# EAGLE library part CIRCUITBRAINS_BASIC (library Dal_V2)
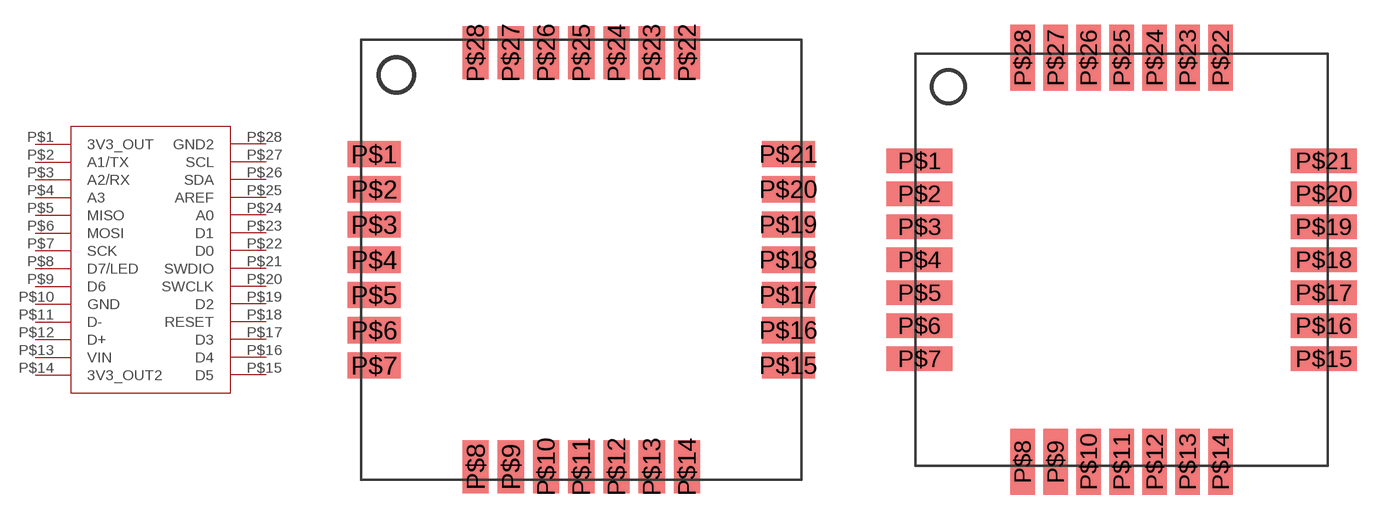
[diagram p16: symbol with the pads of BASIC_28SOM_25MMX25MM; footprints BASIC_28SOM_25MMX25MM, BASIC_28SOM_25MMX25MM_HANDSOLDER]

Designator prefix -

## CIRCUITBRAINS_BASIC  [BASIC_28SOM_25MMX25MM]
P$1  3V3_OUT  pwr
P$2  A1/TX
P$3  A2/RX
P$4  A3
P$5  MISO
P$6  MOSI
P$7  SCK
P$8  D7/LED
P$9  D6
P$10  GND  pwr
P$11  D-
P$12  D+
P$13  VIN  pwr
P$14  3V3_OUT2  pwr
P$15  D5
P$16  D4
P$17  D3
P$18  RESET
P$19  D2
P$20  SWCLK
P$21  SWDIO
P$22  D0
P$23  D1
P$24  A0
P$25  AREF  pwr
P$26  SDA
P$27  SCL
P$28  GND2

## CIRCUITBRAINS_BASICHANDSOLDER  [BASIC_28SOM_25MMX25MM_HANDSOLDER]
Pads as for BASIC_28SOM_25MMX25MM

## Footprint BASIC_28SOM_25MMX25MM (pad centres in mm)
smd 3 x 1.5: P$1 0.75,-6.5; P$2 0.75,-8.5; P$3 0.75,-10.5; P$4 0.75,-12.5; P$5 0.75,-14.5; P$6 0.75,-16.5; P$7 0.75,-18.5; P$15 24.25,-18.5; P$16 24.25,-16.5; P$17 24.25,-14.5; P$18 24.25,-12.5; P$19 24.25,-10.5; P$20 24.25,-8.5; P$21 24.25,-6.5
smd 1.5 x 3: P$8 6.5,-24.25; P$9 8.5,-24.25; P$10 10.5,-24.25; P$11 12.5,-24.25; P$12 14.5,-24.25; P$13 16.5,-24.25; P$14 18.5,-24.25; P$22 18.5,-0.75; P$23 16.5,-0.75; P$24 14.5,-0.75; P$25 12.5,-0.75; P$26 10.5,-0.75; P$27 8.5,-0.75; P$28 6.5,-0.75

## Footprint BASIC_28SOM_25MMX25MM_HANDSOLDER (pad centres in mm)
smd 4 x 1.5: P$1 0.25,-6.5; P$2 0.25,-8.5; P$3 0.25,-10.5; P$4 0.25,-12.5; P$5 0.25,-14.5; P$6 0.25,-16.5; P$7 0.25,-18.5; P$15 24.75,-18.5; P$16 24.75,-16.5; P$17 24.75,-14.5; P$18 24.75,-12.5; P$19 24.75,-10.5; P$20 24.75,-8.5; P$21 24.75,-6.5
smd 1.5 x 4: P$8 6.5,-24.75; P$9 8.5,-24.75; P$10 10.5,-24.75; P$11 12.5,-24.75; P$12 14.5,-24.75; P$13 16.5,-24.75; P$14 18.5,-24.75; P$22 18.5,-0.25; P$23 16.5,-0.25; P$24 14.5,-0.25; P$25 12.5,-0.25; P$26 10.5,-0.25; P$27 8.5,-0.25; P$28 6.5,-0.25